# Altium footprint library SparkFun-Switches.PCBLIB: 68 footprints (part 4 of 7)
Each footprint in its own frame and in the unit in brackets; x right, y up, seen from the top. Pads: shape width x height; smd on the part's side, far side on the other; paste and mask are expansions set on the pad; w line width, h text height; cw(c..) or ccw(c..) is an arc to the next point about the centre after c.
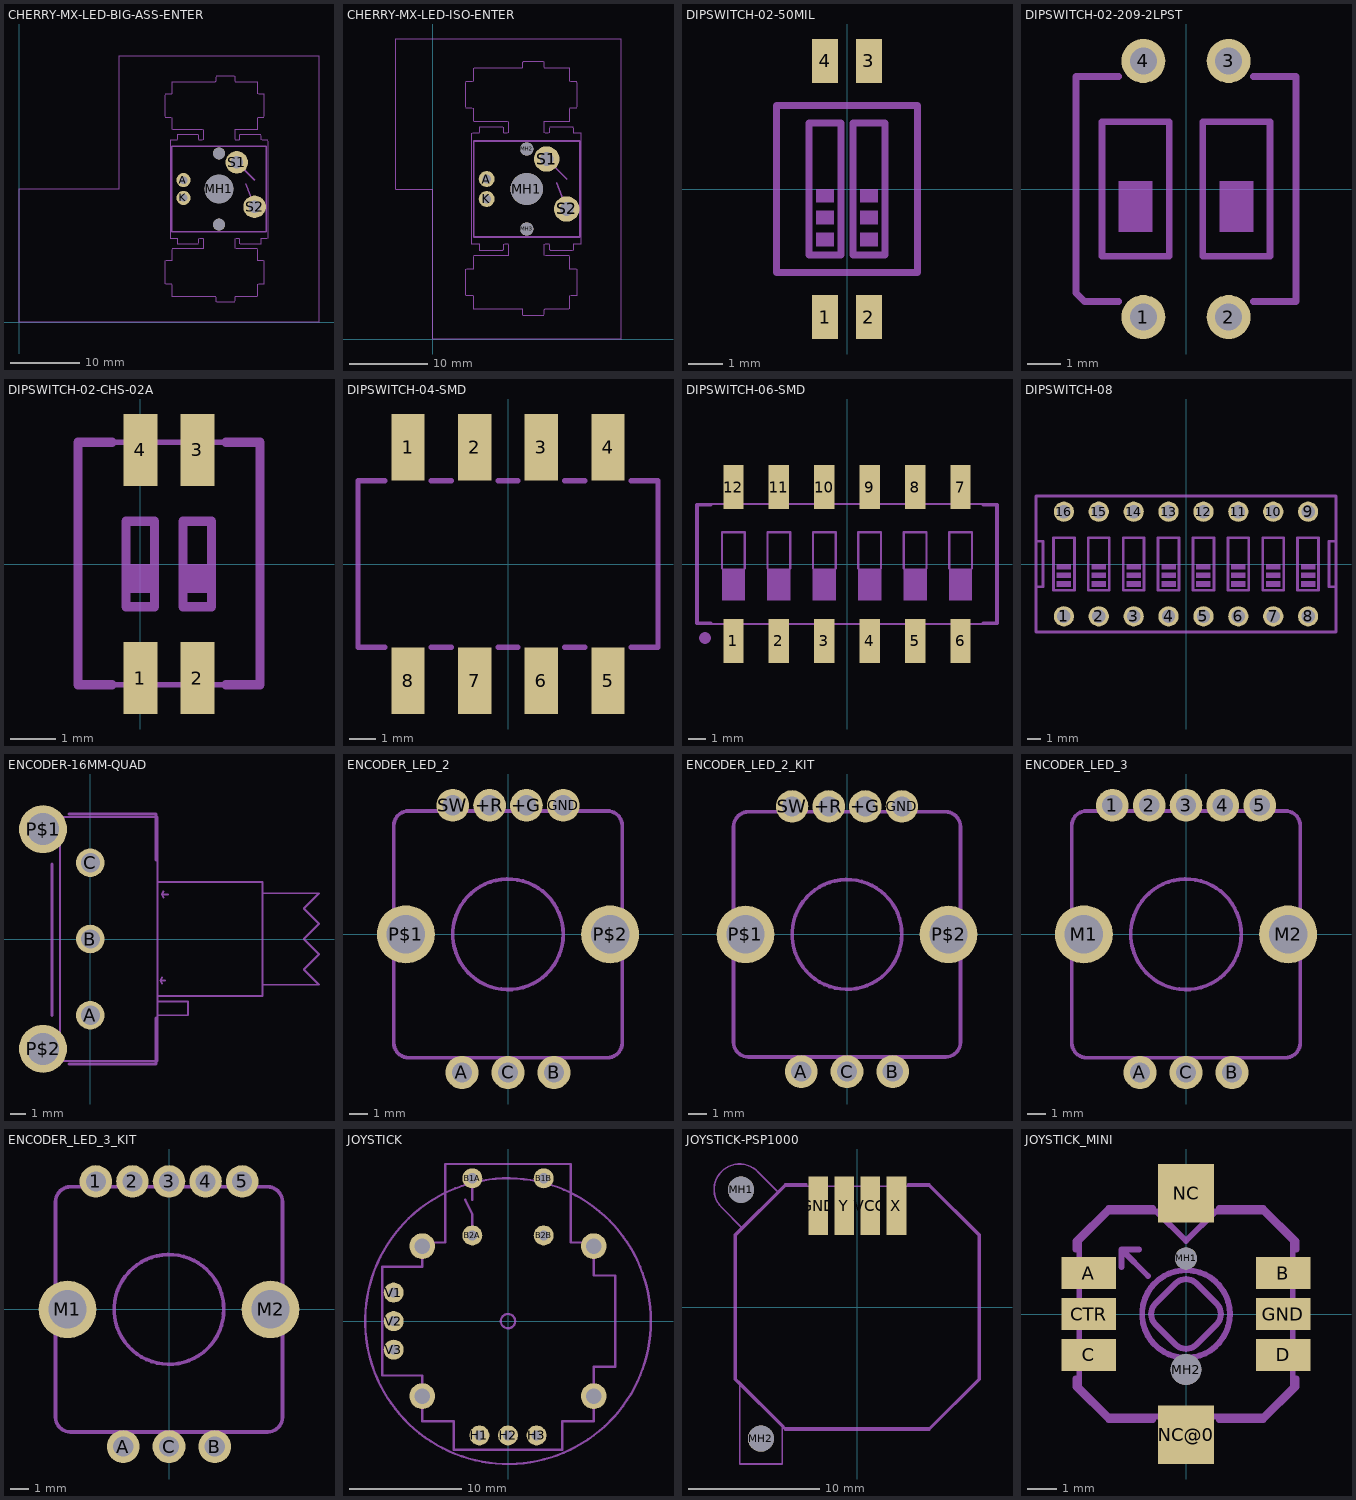
[diagram p3: the footprints below, top view; thin cyan lines are the x and y axes]

## CHERRY-MX-LED-BIG-ASS-ENTER [mil]
pads (7):
  round 80 hole 43: A(925,800) K(925,700)
  round 161 hole 161 unplated: MH1(1125,750)
  round 67.2 hole 67.2 unplated: MH2(1125,950) MH3(1125,550)
  round 127 hole 69: S1(1225,900) S2(1325,650)
tDocu:
  lines w6: 0,0 1687.5,0 1687.5,1500 562.5,1500 562.5,750 0,750 0,0
  text "\"BIG ASS\" ENTER" at 1010.5,25.5 h77.5
  text "1U" at 31.5,340.5 h49.6
  text "1U" at 602,1102.5 h49.6
  text "2U" at 1605,759.5 h49.6
  text "1.5U" at 1058.5,1445.5 h49.6
  text "2.25U" at 759,26 h49.6
tPlace:
  lines w8: 1225,900 1325,800 ; 1275,780 1325,650 ; 860,510 1390,510 1390,990 860,990 860,510
  text "+" at 925,835 h51
  text "-" at 925,650 h51
Reference:
  lines w3.94: 820.72,218.91 820.72,344.9 827.61,345.88 859.11,345.88 859.3,353.56 859.3,408.67 862.06,413.79 1035.29,413.79 1035.29,468.91 1032.33,473.83 1016.59,473.83 1011.66,470.88 1011.66,447.26 1008.71,442.34 890.6,442.34 889.62,449.23 889.62,472.85 882.73,473.83 851.23,473.83 850.25,480.72 850.25,1024.03 857.14,1025.01 888.63,1025.01 889.62,1031.9 889.62,1055.53 896.51,1056.51 1006.74,1056.51 1011.66,1053.55 1011.66,1029.93 1014.62,1025.01 1030.37,1025.01 1035.29,1027.97 1035.29,1083.09 1029.38,1085.05 864.03,1085.05 859.3,1088.2 859.3,1151.2 853.2,1152.97 821.7,1152.97 820.72,1159.86 820.72,1277.97 823.67,1282.89 855.17,1282.89 859.3,1286.63 859.3,1349.62 866,1350.8 1102.22,1350.8 1106.15,1354.74 1106.15,1378.36 1109.11,1383.28 1211.47,1383.28 1216.39,1380.33 1216.39,1356.71 1218.36,1350.8 1336.47,1350.8 1343.55,1350.01 1343.55,1287.02 1347.29,1282.89 1378.79,1282.89 1379.78,1276 1379.78,1157.89 1376.82,1152.97 1345.33,1152.97 1343.55,1146.86 1343.55,1091.74 1342.37,1085.05 1216.39,1085.05 1216.39,1029.93 1219.34,1025.01 1235.09,1025.01 1240.01,1027.97 1240.01,1051.59 1242.96,1056.51 1361.07,1056.51 1362.06,1049.62 1362.06,1026 1368.95,1025.01 1400.45,1025.01 1401.43,1018.12 1401.43,474.82 1394.54,473.83 1363.04,473.83 1362.06,466.94 1362.06,443.32 1355.17,442.34 1244.93,442.34 1240.01,445.29 1240.01,468.91 1237.06,473.83 1221.31,473.83 1216.39,470.88 1216.39,415.76 1222.3,413.79 1340.41,413.79 1343.56,409.07 1343.56,346.07 1351.23,345.88 1374.86,345.88 1379.78,342.92 1379.78,216.94 1372.88,215.96 1349.26,215.96 1343.56,213.79 1343.56,150.8 1338.44,148.04 1220.32,148.04 1216.39,144.11 1216.39,120.48 1213.44,115.56 1111.07,115.56 1106.15,118.52 1106.15,142.14 1104.18,148.04 860.09,148.04 859.3,155.13 859.3,210.25 857.14,215.96 825.64,215.96 820.72,218.91

## CHERRY-MX-LED-ISO-ENTER [mil]
pads (7):
  round 80 hole 43: A(269,800) K(269,700)
  round 161 hole 161 unplated: MH1(469,750)
  round 67.2 hole 67.2 unplated: MH2(469,950) MH3(469,550)
  round 127 hole 69: S1(569,900) S2(669,650)
tDocu:
  lines w6: -187,750 0,750 0,0 938,0 938,1500 -187,1500 -187,750
  text "ISO ENTER" at 504.5,25.5 h77.5
  text "1.25U" at 296.5,16 h49.6
  text "1U" at 15,336.5 h49.6
  text "1U" at -165.5,1140 h49.6
  text "2U" at 863.5,747 h49.6
  text "1.5U" at 331.5,1454.5 h49.6
tPlace:
  lines w8: 569,900 669,800 ; 619,780 669,650 ; 204,510 734,510 734,990 204,990 204,510
  text "+" at 269,835 h51
  text "-" at 269,650 h51
Reference:
  lines w3.94: 162.22,221.41 162.22,347.4 169.11,348.38 200.61,348.38 200.8,356.06 200.8,411.17 203.56,416.29 376.79,416.29 376.79,471.41 373.83,476.33 358.09,476.33 353.16,473.38 353.16,449.76 350.21,444.84 232.1,444.84 231.12,451.73 231.12,475.35 224.23,476.33 192.73,476.33 191.75,483.22 191.75,1026.53 198.64,1027.51 230.13,1027.51 231.12,1034.4 231.12,1058.03 238.01,1059.01 348.24,1059.01 353.16,1056.05 353.16,1032.43 356.12,1027.51 371.87,1027.51 376.79,1030.47 376.79,1085.59 370.88,1087.55 205.53,1087.55 200.8,1090.7 200.8,1153.7 194.7,1155.47 163.2,1155.47 162.22,1162.36 162.22,1280.47 165.17,1285.39 196.67,1285.39 200.8,1289.13 200.8,1352.12 207.5,1353.3 443.72,1353.3 447.65,1357.24 447.65,1380.86 450.61,1385.78 552.97,1385.78 557.89,1382.83 557.89,1359.21 559.86,1353.3 677.97,1353.3 685.05,1352.51 685.05,1289.52 688.79,1285.39 720.29,1285.39 721.28,1278.5 721.28,1160.39 718.32,1155.47 686.83,1155.47 685.05,1149.36 685.05,1094.24 683.87,1087.55 557.89,1087.55 557.89,1032.43 560.84,1027.51 576.59,1027.51 581.51,1030.47 581.51,1054.09 584.46,1059.01 702.57,1059.01 703.56,1052.12 703.56,1028.5 710.45,1027.51 741.95,1027.51 742.93,1020.62 742.93,477.32 736.04,476.33 704.54,476.33 703.56,469.44 703.56,445.82 696.67,444.84 586.43,444.84 581.51,447.79 581.51,471.41 578.56,476.33 562.81,476.33 557.89,473.38 557.89,418.26 563.8,416.29 681.91,416.29 685.05,411.57 685.05,348.57 692.73,348.38 716.36,348.38 721.28,345.42 721.28,219.44 714.38,218.46 690.76,218.46 685.05,216.29 685.05,153.3 679.94,150.54 561.82,150.54 557.89,146.61 557.89,122.98 554.94,118.06 452.57,118.06 447.65,121.02 447.65,144.64 445.68,150.54 201.59,150.54 200.8,157.63 200.8,212.75 198.64,218.46 167.14,218.46 162.22,221.41

## DIPSWITCH-02-50MIL [mil]
pads (4):
  rect 30x50 smd: 1(-25,-145.67) 2(25,-145.67) 3(25,145.67) 4(-25,145.67)
tDocu:
  text "1" at -40,-165 h62
  text "ON" at -75,50 h49.6
  text "2" at 10,-165 h62
tPlace:
  region: -35,-15 -35,0 -15,0 -15,-15
  region: -35,-40 -35,-25 -15,-25 -15,-40
  region: -35,-65 -35,-50 -15,-50 -15,-65
  region: 15,-15 15,0 35,0 35,-15
  region: 15,-40 15,-25 35,-25 35,-40
  region: 15,-65 15,-50 35,-50 35,-65
  lines w8: -80,-95 80,-95 80,95 -80,95 -80,-95 ; -43,-75 -43,75 -7,75 -7,-75 -43,-75 ; 7,-75 7,75 43,75 43,-75 7,-75

## DIPSWITCH-02-209-2LPST [mil]
pads (4):
  round 51.5 hole 31.5: 1(-50,-150) 2(50,-150) 3(50,150) 4(-50,150)
tPlace:
  region: -78.74,-50 -78.74,9.06 -39.37,9.06 -39.37,-50
  region: 39.37,-50 39.37,9.06 78.74,9.06 78.74,-50
  lines w8: -78.74,-131.89 -118.94,-131.89 -128.94,-121.89 -128.94,131.89 -78.74,131.89 ; 78.74,-131.89 128.94,-131.89 128.94,131.89 ; 78.74,131.89 128.74,131.89 ; -98.43,-78.74 -98.43,78.74 -19.69,78.74 -19.69,-78.74 -98.43,-78.74 ; 19.69,-78.74 19.69,78.74 98.43,78.74 98.43,-78.74 19.69,-78.74
  text "ON" at 0,98.43 h27.2

## DIPSWITCH-02-CHS-02A [mil]
pads (4):
  rect 29.92x62.99 smd: 1(0,-100) 2(50,-100) 3(50,100) 4(0,100)
tDocu:
  lines w5: -25,-105.83 75,-105.83 ; -25,106.77 75,106.77
  text "O" at 12.5,62.5 h49.6
  text "N" at 62.5,62.5 h49.6
  text "1" at 12.5,-75 h49.6
  text "2" at 62.5,-75 h49.6
tPlace:
  region: -12.5,-25 -12.5,0 12.5,0 12.5,-25
  region: 37.5,-25 37.5,0 62.5,0 62.5,-25
  lines w8: -25,-105.83 -54.8,-105.83 -54.8,106.77 -25,106.77 ; 75,-105.83 105.05,-105.83 105.05,106.77 75,106.77 ; -12.5,-37.5 12.5,-37.5 12.5,37.5 -12.5,37.5 -12.5,-37.5 ; 37.5,-37.5 62.5,-37.5 62.5,37.5 37.5,37.5 37.5,-37.5

## DIPSWITCH-04-SMD [mil]
pads (8):
  rect 50x100 smd: 1(-150,175) 2(-50,175) 3(50,175) 4(150,175) 5(150,-175) 6(50,-175) 7(-50,-175) 8(-150,-175)
tPlace:
  lines w8: -185,-125 -225,-125 -225,125 -185,125 ; -115,-125 -85,-125 ; -115,125 -85,125 ; -15,-125 15,-125 ; -15,125 15,125 ; 85,-125 115,-125 ; 85,125 115,125 ; 185,-125 225,-125 225,125 185,125

## DIPSWITCH-06-SMD [mil]
pads (12):
  rect 44.49x96.06 smd: 1(-250,-169.29) 2(-150,-169.29) 3(-50,-169.29) 4(50,-169.29) 5(150,-169.29) 6(250,-169.29) 7(250,169.29) 8(150,169.29) 9(50,169.29) 10(-50,169.29) 11(-150,169.29) 12(-250,169.29)
tDocu:
  region: -275,-10 -275,-80 -225,-80 -225,-10
  region: -175,-10 -175,-80 -125,-80 -125,-10
  region: -75,-10 -75,-80 -25,-80 -25,-10
  region: 25,-10 25,-80 75,-80 75,-10
  region: 125,-10 125,-80 175,-80 175,-10
  region: 225,-10 225,-80 275,-80 275,-10
  lines w5: -275,-10 -275,70 -225,70 -225,-10 ; -175,-10 -175,70 -125,70 -125,-10 ; -75,-10 -75,70 -25,70 -25,-10 ; 25,-10 25,70 75,70 75,-10 ; 125,-10 125,70 175,70 175,-10 ; 225,-10 225,70 275,70 275,-10 ; -328.94,-131.89 -328.94,131.89 328.94,131.89 328.94,-131.89 -328.94,-131.89
tPlace:
  region: -275,-80 -275,-10 -225,-10 -225,-80
  region: -175,-80 -175,-10 -125,-10 -125,-80
  region: -75,-80 -75,-10 -25,-10 -25,-80
  region: 25,-80 25,-10 75,-10 75,-80
  region: 125,-80 125,-10 175,-10 175,-80
  region: 225,-80 225,-10 275,-10 275,-80
  region: -312.5,-175 -314.99,-175 -319.58,-173.1 -323.1,-169.58 -325,-164.99 -325,-162.5 -325,-160.01 -323.1,-155.42 -319.58,-151.9 -314.99,-150 -312.5,-150 -310.01,-150 -305.42,-151.9 -301.9,-155.42 -300,-160.01 -300,-162.5 -300,-164.99 -301.9,-169.58 -305.42,-173.1 -310.01,-175 -312.5,-175
  lines w8: -300,-130 -330,-130 -330,130 -300,130 ; 300,-130 330,-130 330,130 300,130
  text "ON" at -245,95 h49.6

## DIPSWITCH-08 [mil]
pads (16):
  round 58.19 hole 38.19: 1(-350,-150) 2(-250,-150) 3(-150,-150) 4(-50,-150) 5(50,-150) 6(150,-150) 7(250,-150) 8(350,-150) 9(350,150) 10(250,150) 11(150,150) 12(50,150) 13(-50,150) 14(-150,150) 15(-250,150) 16(-350,150)
tDocu:
  text "1" at -360,-165 h93
  text "ON" at -400,100 h93
  text "2" at -270,-165 h93
  text "3" at -170,-165 h93
  text "4" at -70,-165 h93
  text "5" at 30,-165 h93
  text "6" at 130,-165 h93
  text "7" at 230,-165 h93
  text "8" at 330,-165 h93
tPlace:
  region: 330,-15 330,0 370,0 370,-15
  region: 330,-40 330,-25 370,-25 370,-40
  region: 330,-65 330,-50 370,-50 370,-65
  region: 230,-15 230,0 270,0 270,-15
  region: 230,-40 230,-25 270,-25 270,-40
  region: 230,-65 230,-50 270,-50 270,-65
  region: 130,-15 130,0 170,0 170,-15
  region: 130,-40 130,-25 170,-25 170,-40
  region: 130,-65 130,-50 170,-50 170,-65
  region: 30,-15 30,0 70,0 70,-15
  region: 30,-40 30,-25 70,-25 70,-40
  region: 30,-65 30,-50 70,-50 70,-65
  region: -70,-15 -70,0 -30,0 -30,-15
  region: -70,-40 -70,-25 -30,-25 -30,-40
  region: -70,-65 -70,-50 -30,-50 -30,-65
  region: -170,-15 -170,0 -130,0 -130,-15
  region: -170,-40 -170,-25 -130,-25 -130,-40
  region: -170,-65 -170,-50 -130,-50 -130,-65
  region: -270,-15 -270,0 -230,0 -230,-15
  region: -270,-40 -270,-25 -230,-25 -230,-40
  region: -270,-65 -270,-50 -230,-50 -230,-65
  region: -370,-15 -370,0 -330,0 -330,-15
  region: -370,-40 -370,-25 -330,-25 -330,-40
  region: -370,-65 -370,-50 -330,-50 -330,-65
  lines w8: -430,-65 -410,-65 -410,65 -430,65 ; -430,-65 -430,-195 430,-195 430,-65 ; -430,-65 -430,65 ; -430,65 -430,195 430,195 430,65 ; 430,-65 410,-65 410,65 430,65 ; 430,-65 430,65 ; -380,-75 -380,75 -320,75 -320,-75 -380,-75 ; -280,-75 -280,75 -220,75 -220,-75 -280,-75 ; -180,-75 -180,75 -120,75 -120,-75 -180,-75 ; -80,-75 -80,75 -20,75 -20,-75 -80,-75 ; 20,-75 20,75 80,75 80,-75 20,-75 ; 120,-75 120,75 180,75 180,-75 120,-75 ; 220,-75 220,75 280,75 280,-75 220,-75 ; 320,-75 320,75 380,75 380,-75 320,-75

## ENCODER-16MM-QUAD [mm]
pads (5):
  round 1.875 hole 1.25: A(0,-5) B(0,0) C(0,5)
  round 3.15 hole 2.1: P$1(-3.1,7.2) P$2(-3.1,-7.2)
tDocu:
  lines w0.127: 4.7,-2.93 4.6,-2.73 ; 4.7,-2.53 4.6,-2.73 ; 4.8,2.73 4.7,2.93 ; 4.8,3.13 4.7,2.93 ; 4.9,-2.73 4.6,-2.73 ; 5.1,2.93 4.7,2.93 ; 4.4,-5 4.4,-4.1 ; 4.4,-5 4.4,-8 -2,-8 -2,8 4.4,8 4.4,3.73 ; 4.4,-5 6.4,-5 6.4,-4.1 4.4,-4.1 ; 4.4,-4.1 4.4,-3.73 ; 4.4,-3.73 4.4,3.73 ; 4.4,-3.73 11.3,-3.73 11.3,-3 ; 4.4,3.73 11.3,3.73 11.3,3 ; 11.3,-3 11.3,3 ; 11.3,-3 15,-3 14,-2 15,-1 14,0 15,1 14,2 15,3 11.3,3
  text "Mounting Surface" at 5.138,-2.114 h0.63
  text "*3mm diameter x 2mm tab at 6 o'clock (from front)" at 6.715,-4.826 h0.63
tPlace:
  lines w0.203: -2.5,-5 -2.5,4.9 ; -1.4,-8.2 4.3,-8.2 4.3,-5.2 ; -1.4,8.2 4.3,8.2 4.3,5.2

## ENCODER_LED_2 [mil]
pads (9):
  round 70 hole 43.31: +G(39.37,275.59) +R(-39.37,275.59) GND(118.11,275.59) SW(-118.11,275.59)
  round 70.87 hole 43.31: A(-98.43,-295.28) B(98.43,-295.28) C(0,-295.28)
  round 124.02 hole 82.68: P$1(-218.5,0) P$2(218.5,0)
tDocu:
  lines w8: -244.09,-66.93 -244.09,66.93 ; -153.54,263.78 153.54,263.78 ; -133.86,-263.78 133.86,-263.78 ; 244.09,-66.93 244.09,66.93
tPlace:
  circle w8: c0,0 r118.11
  lines w8: -244.09,-66.93 -244.09,-232.04 ccw(c-212.35,-232.04) -212.35,-263.78 -133.86,-263.78 ; -244.09,66.93 -244.09,232.04 cw(c-212.35,232.04) -212.35,263.78 -153.54,263.78 ; 133.86,-263.78 212.35,-263.78 ccw(c212.35,-232.04) 244.09,-232.04 244.09,-66.93 ; 153.54,263.78 212.35,263.78 cw(c212.35,232.04) 244.09,232.04 244.09,66.93

## ENCODER_LED_2_KIT [mil]
pads (9):
  round 70 hole 43.31: +G(39.37,275.59) +R(-39.37,275.59) GND(118.11,275.59) SW(-118.11,275.59)
  round 70.87 hole 43.31: A(-98.43,-295.28) B(98.43,-295.28) C(0,-295.28)
  round 124.02 hole 82.68: P$1(-218.5,0) P$2(218.5,0)
Top Solder:
  drawing of 9 lines, arcs and shapes, not listed
Bottom Solder:
  drawing of 9 lines, arcs and shapes, not listed
tDocu:
  lines w8: -244.09,-66.93 -244.09,66.93 ; -153.54,263.78 153.54,263.78 ; -133.86,-263.78 133.86,-263.78 ; 244.09,-66.93 244.09,66.93
tPlace:
  circle w8: c0,0 r118.11
  lines w8: -244.09,-66.93 -244.09,-232.04 ccw(c-212.35,-232.04) -212.35,-263.78 -133.86,-263.78 ; -244.09,66.93 -244.09,232.04 cw(c-212.35,232.04) -212.35,263.78 -153.54,263.78 ; 133.86,-263.78 212.35,-263.78 ccw(c212.35,-232.04) 244.09,-232.04 244.09,-66.93 ; 153.54,263.78 212.35,263.78 cw(c212.35,232.04) 244.09,232.04 244.09,66.93

## ENCODER_LED_3 [mil]
pads (10):
  round 70 hole 43.31: 1(-157.48,275.59) 2(-78.74,275.59) 3(0,275.59) 4(78.74,275.59) 5(157.48,275.59)
  round 70.87 hole 43.31: A(-98.43,-295.28) B(98.43,-295.28) C(0,-295.28)
  round 124.02 hole 82.68: M1(-218.5,0) M2(218.5,0)
tDocu:
  lines w8: -244.09,-66.93 -244.09,66.93 ; -153.54,263.78 153.54,263.78 ; -133.86,-263.78 133.86,-263.78 ; 244.09,-66.93 244.09,66.93
tPlace:
  circle w8: c0,0 r118.11
  lines w8: -244.09,-66.93 -244.09,-232.04 ccw(c-212.35,-232.04) -212.35,-263.78 -133.86,-263.78 ; -244.09,66.93 -244.09,232.04 cw(c-212.35,232.04) -212.35,263.78 -153.54,263.78 ; 133.86,-263.78 212.35,-263.78 ccw(c212.35,-232.04) 244.09,-232.04 244.09,-66.93 ; 153.54,263.78 212.35,263.78 cw(c212.35,232.04) 244.09,232.04 244.09,66.93

## ENCODER_LED_3_KIT [mil]
pads (10):
  round 70 hole 43.31: 1(-157.48,275.59) 2(-78.74,275.59) 3(0,275.59) 4(78.74,275.59) 5(157.48,275.59)
  round 70.87 hole 43.31: A(-98.43,-295.28) B(98.43,-295.28) C(0,-295.28)
  round 124.02 hole 82.68: M1(-218.5,0) M2(218.5,0)
Top Solder:
  drawing of 10 lines, arcs and shapes, not listed
Bottom Solder:
  drawing of 10 lines, arcs and shapes, not listed
tDocu:
  lines w8: -244.09,-66.93 -244.09,66.93 ; -153.54,263.78 153.54,263.78 ; -133.86,-263.78 133.86,-263.78 ; 244.09,-66.93 244.09,66.93
tPlace:
  circle w8: c0,0 r118.11
  lines w8: -244.09,-66.93 -244.09,-232.04 ccw(c-212.35,-232.04) -212.35,-263.78 -133.86,-263.78 ; -244.09,66.93 -244.09,232.04 cw(c-212.35,232.04) -212.35,263.78 -153.54,263.78 ; 133.86,-263.78 212.35,-263.78 ccw(c212.35,-232.04) 244.09,-232.04 244.09,-66.93 ; 153.54,263.78 212.35,263.78 cw(c212.35,232.04) 244.09,232.04 244.09,66.93

## JOYSTICK [mil]
pads (14):
  round 70 hole 35.43: B1A(-125,500) B1B(125,500) B2A(-125,300) B2B(125,300)
  round 70 hole 35: H1(-100,-400) H2(0,-400) H3(100,-400) V1(-400,100) V2(-400,0) V3(-400,-100)
  round 90 hole 55: MOUNT1(-300,262.5) MOUNT2(-300,-262.5) MOUNT3(300,-262.5) MOUNT4(300,262.5)
tDocu:
  circle w8: c0,0 r500
  lines w8: -150,425 -125,375 -125,325 ; -125,425 -125,475
tPlace:
  circle w8: c0,0 r25
  lines w8: -440,-190 -300,-190 -300,-350 -190,-350 -190,-450 190,-450 190,-350 300,-350 300,-160 375,-160 375,160 300,160 300,275 220,275 220,550 -220,550 -220,275 -300,275 -300,190 -440,190 -440,-190

## JOYSTICK-PSP1000 [mm]
pads (6):
  rect 1.5x4.5 smd: GND(-3,7.75) VCC(1,7.75) X(3,7.75) Y(-1,7.75)
  round 2 hole 2 unplated: MH1(-8.89,8.985) MH2(-7.375,-10.06)
tDocu:
  lines w0.127: -10.4,7.658 -8.75,6 ; -10.381,7.631 cw(c-9.006,9.006) -7.631,10.381 ; -7.65,10.408 -6,8.75 ; -9,-5.75 -9.25,-5.5 -9.25,5.5 -8.75,6 ; -9,-5.75 -5.75,-9 ; -9,-5.75 -9,-12 -5.75,-12 -5.75,-9 ; -8.75,6 -6,8.75 ; -6,8.75 -5.5,9.25 5.5,9.25 9.25,5.5 9.25,-5.5 5.5,-9.25 -5.5,-9.25 -5.75,-9
tPlace:
  lines w0.203: -3.898,9.377 -5.5,9.377 -9.377,5.5 -9.377,-5.5 -5.5,-9.377 5.5,-9.377 9.377,-5.5 9.377,5.5 5.5,9.377 3.898,9.377

## JOYSTICK_MINI [mm]
pads (10):
  rect 1.85x1.1 smd: A(-3.325,1.4) B(3.325,1.4) C(-3.325,-1.4) CTR(-3.325,0) D(3.325,-1.4) GND(3.325,0)
  round 0.75 hole 0.75 unplated: MH1(0,1.9)
  round 1.05 hole 1.05 unplated: MH2(0,-1.9)
  rect 1.9x2 smd: NC(0,4.13) NC@0(0,-4.13)
tDocu:
  circle w0.203: c0,0 r1.5
  lines w0.203: -2.2,1.6 -2.2,2.2 ; -1.6,2.2 -2.2,2.2 ; -1.3,1.3 -2.2,2.2 ; -1,3.5 -2.65,3.5 -3.65,2.5 -3.65,-2.5 -2.65,-3.5 2.65,-3.5 3.65,-2.5 3.65,2.5 2.65,3.5 1,3.5 ; -1,3.5 0,2.5 1,3.5 ; -1,3.5 1,3.5 ; -1.046,-0.354 -0.354,-1.046 ccw(c0,-0.693) 0.354,-1.046 1.046,-0.354 ccw(c0.693,0) 1.046,0.354 0.354,1.046 ccw(c0,0.693) -0.354,1.046 -1.046,0.354 ccw(c-0.693,0) -1.046,-0.354
  text "UP" at -2.9,1.9 h1.26
tPlace:
  circle w0.203: c0,0 r1.5
  lines w0.203: -3.777,-2.199 -3.777,-2.5 -2.65,-3.627 -1.127,-3.627 ; -3.777,2.199 -3.777,2.5 -2.65,3.627 -1.127,3.627 ; -2.2,1.6 -2.2,2.2 ; -1.6,2.2 -2.2,2.2 ; -1.3,1.3 -2.2,2.2 ; 1.127,-3.627 2.65,-3.627 3.777,-2.5 3.777,-2.199 ; 1.127,3.627 2.65,3.627 3.777,2.5 3.777,2.199 ; -1.046,-0.354 -0.354,-1.046 ccw(c0,-0.693) 0.354,-1.046 1.046,-0.354 ccw(c0.693,0) 1.046,0.354 0.354,1.046 ccw(c0,0.693) -0.354,1.046 -1.046,0.354 ccw(c-0.693,0) -1.046,-0.354
  text "UP" at -2.9,1.9 h1.26